# Altium footprint library XT Wonder.PcbLib: 23 footprints (part 2 of 2)
Each footprint in its own frame and in the unit in brackets; x right, y up, seen from the top. Pads: shape width x height; smd on the part's side, far side on the other; paste and mask are expansions set on the pad; w line width, h text height; cw(c..) or ccw(c..) is an arc to the next point about the centre after c.
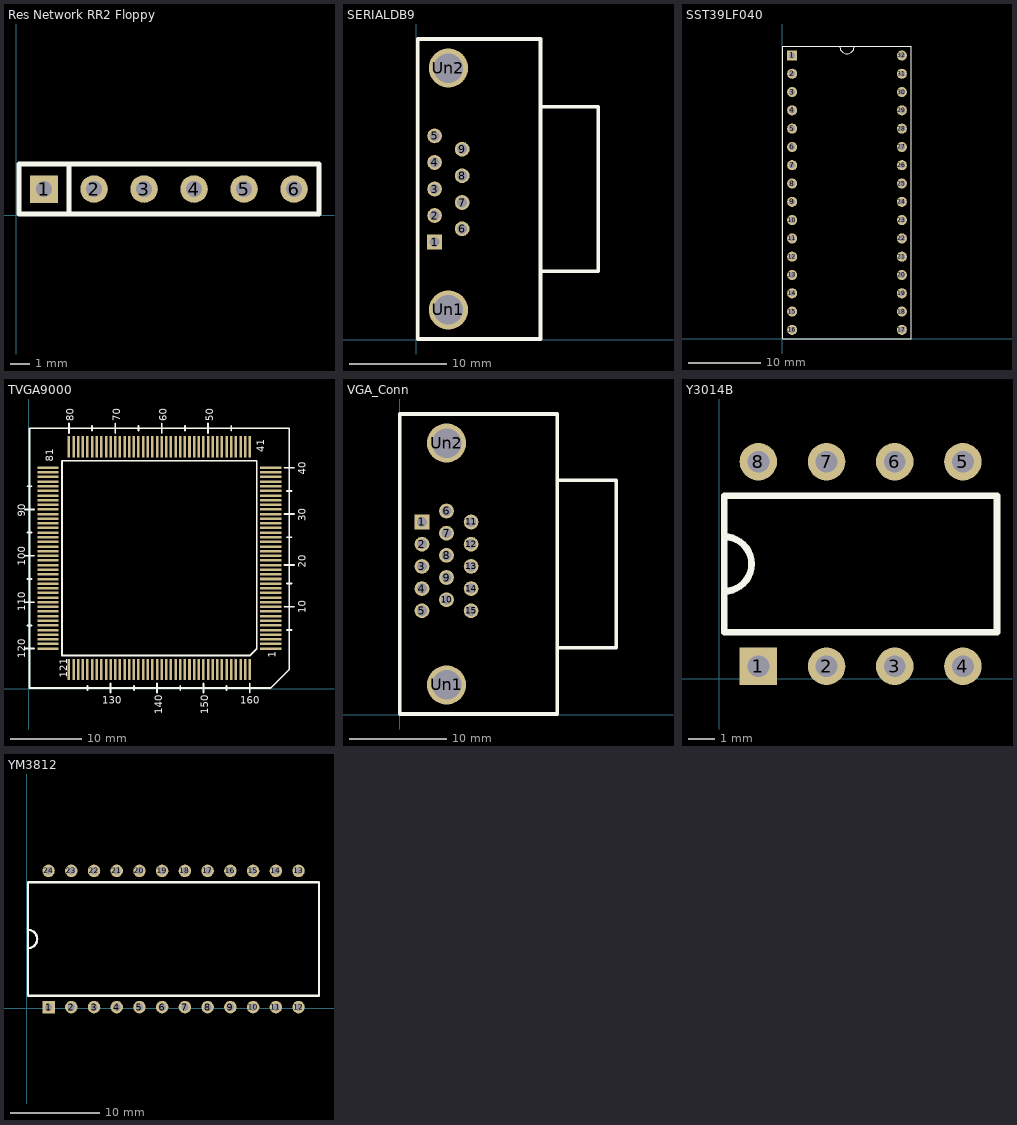
[diagram p1: the footprints below, top view; thin cyan lines are the x and y axes]

## Res Network RR2 Floppy [mil]
pads (6):
  rect 55x55 hole 32 paste-55 mask+10: 1(55.92,52.43)
  round 55 hole 32 paste-55 mask+10: 2(155.92,52.43) 3(255.92,52.43) 4(355.92,52.43) 5(455.92,52.43) 6(555.92,52.43)
Top Overlay:
  lines w10: 105.92,2.43 105.92,102.43 ; 5.92,2.43 605.92,2.43 605.92,102.43 5.92,102.43 5.92,2.43

## SERIALDB9 [mil]
pads (11):
  rect 60x60 hole 41 paste-60 mask+10: 1(74,397)
  round 60 hole 41 paste-60 mask+10: 2(74,505) 3(74,613) 4(74,721) 5(74,829) 6(186,451) 7(186,558) 8(186,667) 9(186,775)
  round 159.4 hole 120.1 paste-159.4 mask+10: Un1(130,121.1) Un2(130,1104.9)
Top Overlay:
  lines w15: 505,278 740,278 740,948 505,948 ; 5,3 505,3 505,1223 5,1223 5,3

## SST39LF040 [mil]
pads (32):
  rect 55x55 hole 32 paste-55 mask+0: 1(55,1550)
  round 55 hole 32 paste-55 mask+0: 2(55,1450) 3(55,1350) 4(55,1250) 5(55,1150) 6(55,1050) 7(55,950) 8(55,850) 9(55,750) 10(55,650) 11(55,550) 12(55,450) 13(55,350) 14(55,250) 15(55,150) 16(55,50) 17(655,50) 18(655,150) 19(655,250) 20(655,350) 21(655,450) 22(655,550) 23(655,650) 24(655,750) 25(655,850) 26(655,950) 27(655,1050) 28(655,1150) 29(655,1250) 30(655,1350) 31(655,1450) 32(655,1550)
Top Overlay:
  lines w4.72: 315,1600 ccw(c355,1600) 355,1560 ccw(c355,1600) 395,1600 ; 5,0 5,1600 705,1600 705,0 5,0

## TVGA9000 [mil] "TVGA9000i Footprint"
pads (160):
  rect 118.1x13.8 smd mask+10: 1(1334.2,221) 2(1334.2,246.6) 3(1334.2,272.2) 4(1334.2,297.8) 5(1334.2,323.4) 6(1334.2,349) 7(1334.2,374.6) 8(1334.2,400.1) 9(1334.2,425.7) 10(1334.2,451.3) 11(1334.2,476.9) 12(1334.2,502.5) 13(1334.2,528.1) 14(1334.2,553.7) 15(1334.2,579.3) 16(1334.2,604.9) 17(1334.2,630.5) 18(1334.2,656.1) 19(1334.2,681.6) 20(1334.2,707.2) 21(1334.2,732.8) 22(1334.2,758.4) 23(1334.2,784) 24(1334.2,809.6) 25(1334.2,835.2) 26(1334.2,860.8) 27(1334.2,886.4) 28(1334.2,912) 29(1334.2,937.5) 30(1334.2,963.1) 31(1334.2,988.7) 32(1334.2,1014.3) 33(1334.2,1039.9) 34(1334.2,1065.5) 35(1334.2,1091.1) 36(1334.2,1116.7) 37(1334.2,1142.3) 38(1334.2,1167.9) 39(1334.2,1193.5) 40(1334.2,1219) 81(105.8,1219) 82(105.8,1193.4) 83(105.8,1167.8) 84(105.8,1142.2) 85(105.8,1116.6) 86(105.8,1091.1) 87(105.8,1065.5) 88(105.8,1039.9) 89(105.8,1014.3) 90(105.8,988.7) 91(105.8,963.1) 92(105.8,937.5) 93(105.8,911.9) 94(105.8,886.3) 95(105.8,860.7) 96(105.8,835.2) 97(105.8,809.6) 98(105.8,784) 99(105.8,758.4) 100(105.8,732.8) 101(105.8,707.2) 102(105.8,681.6) 103(105.8,656) 104(105.8,630.4) 105(105.8,604.8) 106(105.8,579.2) 107(105.8,553.7) 108(105.8,528.1) 109(105.8,502.5) 110(105.8,476.9) 111(105.8,451.3) 112(105.8,425.7) 113(105.8,400.1) 114(105.8,374.5) 115(105.8,348.9) 116(105.8,323.3) 117(105.8,297.8) 118(105.8,272.2) 119(105.8,246.6) 120(105.8,221)
  rect 13.8x118.1 smd mask+10: 41(1219,1334.2) 42(1193.4,1334.2) 43(1167.8,1334.2) 44(1142.2,1334.2) 45(1116.7,1334.2) 46(1091.1,1334.2) 47(1065.5,1334.2) 48(1039.9,1334.2) 49(1014.3,1334.2) 50(988.7,1334.2) 51(963.1,1334.2) 52(937.5,1334.2) 53(911.9,1334.2) 54(886.3,1334.2) 55(860.8,1334.2) 56(835.2,1334.2) 57(809.6,1334.2) 58(784,1334.2) 59(758.4,1334.2) 60(732.8,1334.2) 61(707.2,1334.2) 62(681.6,1334.2) 63(656,1334.2) 64(630.4,1334.2) 65(604.8,1334.2) 66(579.2,1334.2) 67(553.7,1334.2) 68(528.1,1334.2) 69(502.5,1334.2) 70(476.9,1334.2) 71(451.3,1334.2) 72(425.7,1334.2) 73(400.1,1334.2) 74(374.5,1334.2) 75(348.9,1334.2) 76(323.3,1334.2) 77(297.8,1334.2) 78(272.2,1334.2) 79(246.6,1334.2) 80(221,1334.2) 121(221,105.8) 122(246.6,105.8) 123(272.2,105.8) 124(297.8,105.8) 125(323.3,105.8) 126(348.9,105.8) 127(374.5,105.8) 128(400.1,105.8) 129(425.7,105.8) 130(451.3,105.8) 131(476.9,105.8) 132(502.5,105.8) 133(528.1,105.8) 134(553.7,105.8) 135(579.2,105.8) 136(604.8,105.8) 137(630.4,105.8) 138(656,105.8) 139(681.6,105.8) 140(707.2,105.8) 141(732.8,105.8) 142(758.4,105.8) 143(784,105.8) 144(809.6,105.8) 145(835.2,105.8) 146(860.7,105.8) 147(886.3,105.8) 148(911.9,105.8) 149(937.5,105.8) 150(963.1,105.8) 151(988.7,105.8) 152(1014.3,105.8) 153(1039.9,105.8) 154(1065.5,105.8) 155(1091.1,105.8) 156(1116.6,105.8) 157(1142.2,105.8) 158(1167.8,105.8) 159(1193.4,105.8) 160(1219,105.8)
Top Overlay:
  lines w10: -22.1,221 29.1,221 ; -22.1,476.9 29.1,476.9 ; -22.1,732.8 29.1,732.8 ; -22.1,988.7 29.1,988.7 ; -9.3,348.9 16.3,348.9 ; -9.3,604.8 16.3,604.8 ; -9.3,860.7 16.3,860.7 ; -9.3,1116.7 16.3,1116.7 ; 221,1410.9 221,1462.1 ; 323.3,-9.3 323.3,16.3 ; 348.9,1423.7 348.9,1449.3 ; 451.3,-22.1 451.3,29.1 ; 476.9,1410.9 476.9,1462.1 ; 579.3,-9.3 579.3,16.3 ; 604.8,1423.7 604.8,1449.3 ; 707.2,-22.1 707.2,29.1 ; 732.8,1410.9 732.8,1462.1 ; 835.2,-9.3 835.2,16.3 ; 860.7,1423.7 860.7,1449.3 ; 963.1,-22.1 963.1,29.1 ; 988.7,1410.9 988.7,1462.1 ; 1091.1,-9.3 1091.1,16.3 ; 1116.7,1423.7 1116.7,1449.3 ; 1219,-22.1 1219,29.1 ; 1410.9,451.3 1462.1,451.3 ; 1410.9,681.6 1462.1,681.6 ; 1410.9,963.1 1462.1,963.1 ; 1410.9,1219 1462.1,1219 ; 1423.7,323.3 1449.3,323.3 ; 1423.7,579.3 1449.3,579.3 ; 1423.7,835.2 1449.3,835.2 ; 1423.7,1091.1 1449.3,1091.1 ; 3.5,3.5 1334.2,3.5 1436.5,105.8 1436.5,1436.5 3.5,1436.5 3.5,3.5 ; 182.6,182.6 182.6,1257.4 1257.4,1257.4 1257.4,221 1219,182.6 182.6,182.6
  text "1" at 1362.2,169.84 h40
  text "160" at 1167.25,-83 h40
  text "40" at 1528.5,1179.86 h40
  text "10" at 1528.5,415.31 h40
  text "20" at 1528.5,668.06 h40
  text "30" at 1528.5,923.96 h40
  text "41" at 1298.2,1303.63 h40
  text "81" at 133.8,1252.43 h40
  text "121" at 210.6,60.57 h40
  text "50" at 1016.7,1474.16 h40
  text "60" at 760.8,1475.21 h40
  text "70" at 504.9,1474.16 h40
  text "80" at 249,1474.16 h40
  text "90" at -19.7,949.56 h40
  text "100" at -19.7,679 h40
  text "110" at -19.7,426.24 h40
  text "120" at -19.7,167.2 h40
  text "130" at 403.7,-83 h40
  text "140" at 735.2,-139.9 h40
  text "150" at 991.1,-139.9 h40

## VGA_Conn [mil]
pads (17):
  rect 60x60 hole 41 paste-60 mask+10: 1(90,783.9)
  round 60 hole 41 paste-60 mask+10: 2(90,693.7) 3(90,603.2) 4(90,513) 5(90,422.8) 6(190,828.6) 7(190,738.4) 8(190,648.2) 9(190,558.1) 10(190,467.9) 11(290,783.9) 12(290,693.7) 13(290,603.2) 14(290,513) 15(290,422.8)
  round 159.4 hole 120.1 paste-159.4 mask+10: Un1(190,121.1) Un2(190,1104.9)
Top Overlay:
  lines w15: 640,273 880,273 880,953 640,953 ; 0,3 0,1223 640,1223 640,3 0,3

## Y3014B [mil]
pads (8):
  rect 55x55 hole 32 paste-55 mask+0: 1(57.05,18.33)
  round 55 hole 32 paste-55 mask+0: 2(157.05,18.33) 3(257.05,18.33) 4(357.05,18.33) 5(357.05,318.33) 6(257.05,318.33) 7(157.05,318.33) 8(57.05,318.33)
Top Overlay:
  lines w10: 7.05,128.33 ccw(c7.05,168.33) 47.05,168.33 ccw(c7.05,168.33) 7.05,208.33 ; 7.05,68.33 7.05,268.33 407.05,268.33 407.05,68.33 7.05,68.33

## YM3812 [mil]
pads (24):
  rect 55x55 hole 32 paste-55 mask+0: 1(95,5)
  round 55 hole 32 paste-55 mask+0: 2(195,5) 3(295,5) 4(395,5) 5(495,5) 6(595,5) 7(695,5) 8(795,5) 9(895,5) 10(995,5) 11(1095,5) 12(1195,5) 13(1195,605) 14(1095,605) 15(995,605) 16(895,605) 17(795,605) 18(695,605) 19(595,605) 20(495,605) 21(395,605) 22(295,605) 23(195,605) 24(95,605)
Top Overlay:
  lines w10: 5,265 ccw(c5,305) 45,305 ccw(c5,305) 5,345 ; 5,55 5,555 1285,555 1285,55 5,55